# Altium schematic symbol library PLT10HH1026R0PNL.SchLib: 1 symbol
Pins are listed as number, name and electrical type; pins without a type are passive.

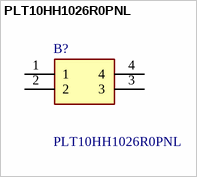
[diagram p0: symbol PLT10HH1026R0PNL]

## PLT10HH1026R0PNL
designator B?
PLT10HH Series EMI Suppression Filter 20uHmin. 6A 100V; Manufacturer_Name: Murata Electronics; Geometry.Height: 9.4mm; Farnell Part Number: *; Farnell Price/Stock: *; Manufacturer_Part_Number: PLT10HH1026R0PNL; Datasheet Link: https://www.murata.com/en-us/products/productdetail?partno=PLT10HH1026R0PN%23
footprint PLT10HH101150PNL
pins: 1, 2, 3, 4